# Altium footprint library 全场定位RM.PcbLib: 1 footprints
Each footprint in its own frame and in the unit in brackets; x right, y up, seen from the top. Pads: shape width x height; smd on the part's side, far side on the other; paste and mask are expansions set on the pad; w line width, h text height; cw(c..) or ccw(c..) is an arc to the next point about the centre after c.
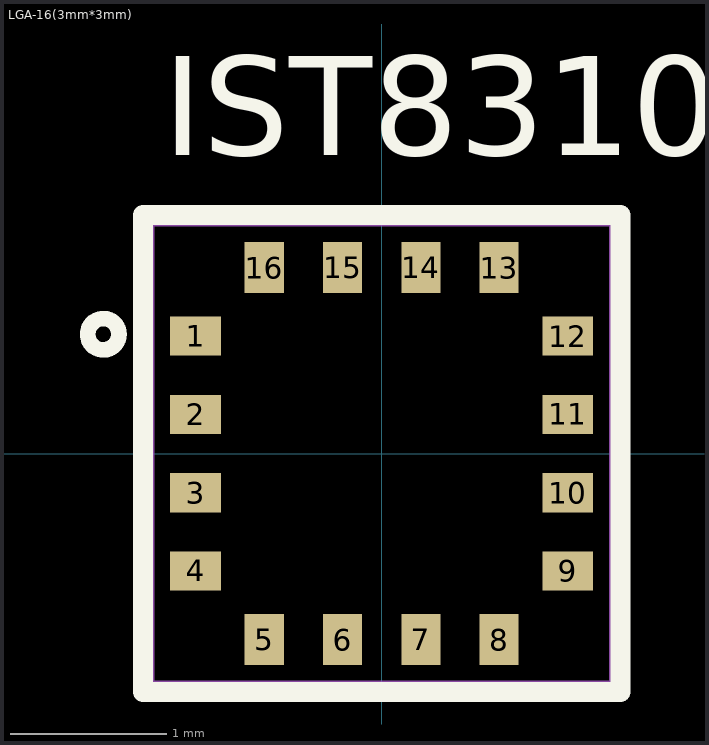
[diagram p0: the footprint, top view; thin cyan lines are the x and y axes]

## LGA-16(3mm*3mm) [mm]
pads (16):
  rect 0.325x0.25 smd: 1(-1.188,0.75) 2(-1.188,0.25) 3(-1.188,-0.25) 4(-1.188,-0.75) 9(1.188,-0.75) 10(1.188,-0.25) 11(1.188,0.25) 12(1.188,0.75)
  rect 0.25x0.325 smd: 5(-0.75,-1.188) 6(-0.25,-1.188) 7(0.25,-1.188) 8(0.75,-1.188) 13(0.75,1.188) 14(0.25,1.188) 15(-0.25,1.188) 16(-0.75,1.188)
Top Overlay:
  circle w0.1: c-1.778,0.762 r0.1
  lines w0.127: -1.524,-1.524 1.524,-1.524 1.524,1.524 -1.524,1.524 -1.524,-1.524
  text "IST8310" at -1.397,1.905 h0.64
Mechanical 1:
  lines w0.1: -1.5,-1.5 -1.5,1.5 1.5,1.5 1.5,-1.5 -1.5,-1.5